# Altium schematic symbol library SCH - DRIVER - GATE - LITTELFUSE IX4427.SchLib: 1 symbol
Pins are listed as number, name and electrical type; pins without a type are passive.

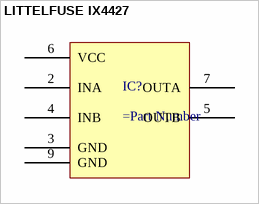
[diagram p0: symbol LITTELFUSE IX4427]

## LITTELFUSE IX4427
designator IC?
pins: 2 INA, 3 GND, 4 INB, 5 OUTB, 6 VCC, 7 OUTA, 9 GND